# EAGLE library part ZED-F9P-02B (library ZED-F9P-02B)
MOD RF RECEIVER GNSS 54LGA Source: Datasheet <https://www.u-blox.com/sites/default/files/ZED-F9P_DataSheet_(UBX-17051259).pdf>
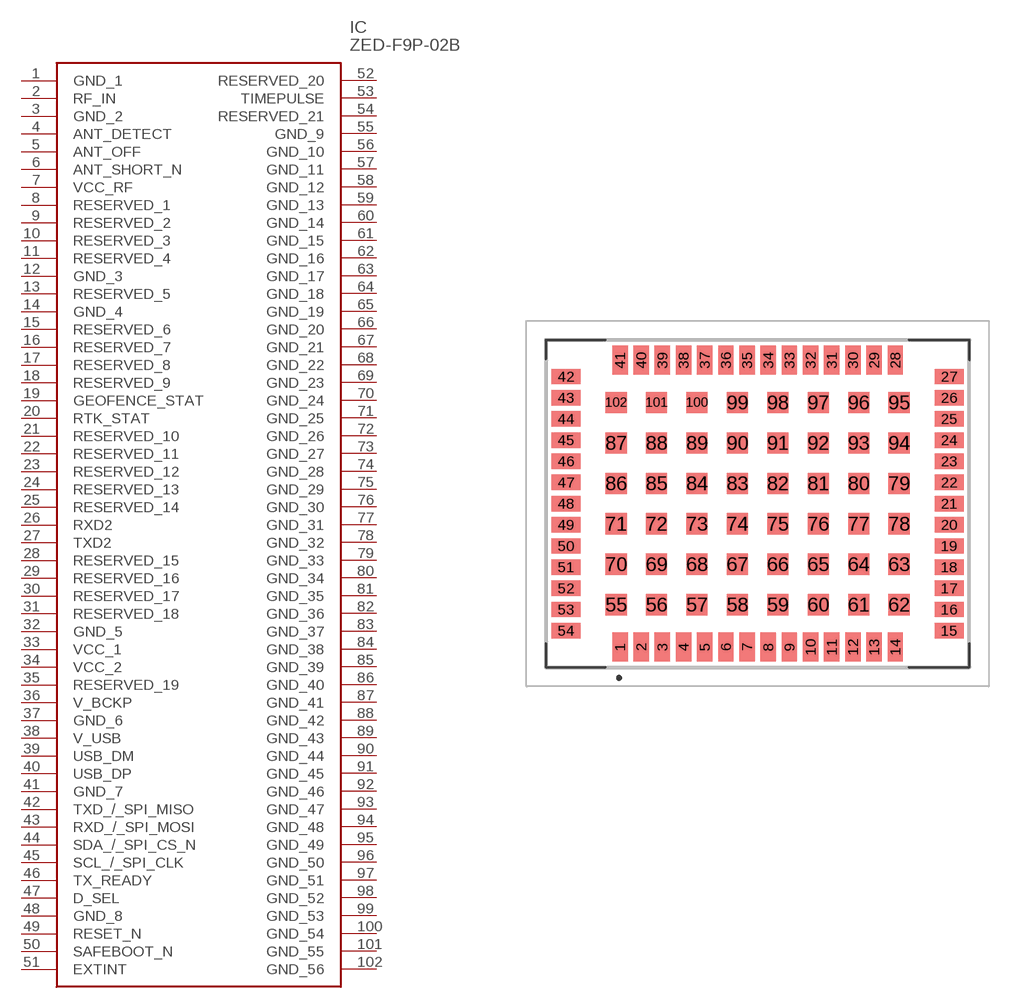
[diagram p0: symbol with the pads of ZEDF9P02B; footprint ZEDF9P02B]

Designator prefix IC

## ZED-F9P-02B (Description: MOD RF RECEIVER GNSS 54LGA; Height: 2.6mm; Manufacturer_Name: U-Blox; Manufacturer_Part_Number: ZED-F9P-02B; Mouser_Part_Number: 377-ZED-F9P-02B; Mouser_Price-Stock: https://www.mouser.co.uk/ProductDetail/u-blox/ZED-F9P-02B?qs=DPoM0jnrROVJit2O2Grdqw%3D%3D)  [ZEDF9P02B]
1  GND_1
2  RF_IN
3  GND_2
4  ANT_DETECT
5  ANT_OFF
6  ANT_SHORT_N
7  VCC_RF
8  RESERVED_1
9  RESERVED_2
10  RESERVED_3
11  RESERVED_4
12  GND_3
13  RESERVED_5
14  GND_4
15  RESERVED_6
16  RESERVED_7
17  RESERVED_8
18  RESERVED_9
19  GEOFENCE_STAT
20  RTK_STAT
21  RESERVED_10
22  RESERVED_11
23  RESERVED_12
24  RESERVED_13
25  RESERVED_14
26  RXD2
27  TXD2
28  RESERVED_15
29  RESERVED_16
30  RESERVED_17
31  RESERVED_18
32  GND_5
33  VCC_1
34  VCC_2
35  RESERVED_19
36  V_BCKP
37  GND_6
38  V_USB
39  USB_DM
40  USB_DP
41  GND_7
42  TXD_/_SPI_MISO
43  RXD_/_SPI_MOSI
44  SDA_/_SPI_CS_N
45  SCL_/_SPI_CLK
46  TX_READY
47  D_SEL
48  GND_8
49  RESET_N
50  SAFEBOOT_N
51  EXTINT
52  RESERVED_20
53  TIMEPULSE
54  RESERVED_21
55  GND_9
56  GND_10
57  GND_11
58  GND_12
59  GND_13
60  GND_14
61  GND_15
62  GND_16
63  GND_17
64  GND_18
65  GND_19
66  GND_20
67  GND_21
68  GND_22
69  GND_23
70  GND_24
71  GND_25
72  GND_26
73  GND_27
74  GND_28
75  GND_29
76  GND_30
77  GND_31
78  GND_32
79  GND_33
80  GND_34
81  GND_35
82  GND_36
83  GND_37
84  GND_38
85  GND_39
86  GND_40
87  GND_41
88  GND_42
89  GND_43
90  GND_44
91  GND_45
92  GND_46
93  GND_47
94  GND_48
95  GND_49
96  GND_50
97  GND_51
98  GND_52
99  GND_53
100  GND_54
101  GND_55
102  GND_56

## Footprint ZEDF9P02B (pad centres in mm)
ZED-F9P-02B-1
smd 0.8 x 1.5: 1 -7.15,-7.45; 2 -6.05,-7.45; 3 -4.95,-7.45; 4 -3.85,-7.45; 5 -2.75,-7.45; 6 -1.65,-7.45; 7 -0.55,-7.45; 8 0.55,-7.45; 9 1.65,-7.45; 10 2.75,-7.45; 11 3.85,-7.45; 12 4.95,-7.45; 13 6.05,-7.45; 14 7.15,-7.45; 28 7.15,7.45; 29 6.05,7.45; 30 4.95,7.45; 31 3.85,7.45; 32 2.75,7.45; 33 1.65,7.45; 34 0.55,7.45; 35 -0.55,7.45; 36 -1.65,7.45; 37 -2.75,7.45; 38 -3.85,7.45; 39 -4.95,7.45; 40 -6.05,7.45; 41 -7.15,7.45
smd 1.5 x 0.8: 15 9.95,-6.6; 16 9.95,-5.5; 17 9.95,-4.4; 18 9.95,-3.3; 19 9.95,-2.2; 20 9.95,-1.1; 21 9.95,0; 22 9.95,1.1; 23 9.95,2.2; 24 9.95,3.3; 25 9.95,4.4; 26 9.95,5.5; 27 9.95,6.6; 42 -9.95,6.6; 43 -9.95,5.5; 44 -9.95,4.4; 45 -9.95,3.3; 46 -9.95,2.2; 47 -9.95,1.1; 48 -9.95,0; 49 -9.95,-1.1; 50 -9.95,-2.2; 51 -9.95,-3.3; 52 -9.95,-4.4; 53 -9.95,-5.5; 54 -9.95,-6.6
smd 1.1 x 1.1: 55 -7.35,-5.25; 56 -5.25,-5.25; 57 -3.15,-5.25; 58 -1.05,-5.25; 59 1.05,-5.25; 60 3.15,-5.25; 61 5.25,-5.25; 62 7.35,-5.25; 63 7.35,-3.15; 64 5.25,-3.15; 65 3.15,-3.15; 66 1.05,-3.15; 67 -1.05,-3.15; 68 -3.15,-3.15; 69 -5.25,-3.15; 70 -7.35,-3.15; 71 -7.35,-1.05; 72 -5.25,-1.05; 73 -3.15,-1.05; 74 -1.05,-1.05; 75 1.05,-1.05; 76 3.15,-1.05; 77 5.25,-1.05; 78 7.35,-1.05; 79 7.35,1.05; 80 5.25,1.05; 81 3.15,1.05; 82 1.05,1.05; 83 -1.05,1.05; 84 -3.15,1.05; 85 -5.25,1.05; 86 -7.35,1.05; 87 -7.35,3.15; 88 -5.25,3.15; 89 -3.15,3.15; 90 -1.05,3.15; 91 1.05,3.15; 92 3.15,3.15; 93 5.25,3.15; 94 7.35,3.15; 95 7.35,5.25; 96 5.25,5.25; 97 3.15,5.25; 98 1.05,5.25; 99 -1.05,5.25; 100 -3.15,5.25; 101 -5.25,5.25; 102 -7.35,5.25